# Altium schematic symbol library Sch_LPC.SchLib: 2 symbols
Pins are listed as number, name and electrical type; pins without a type are passive.

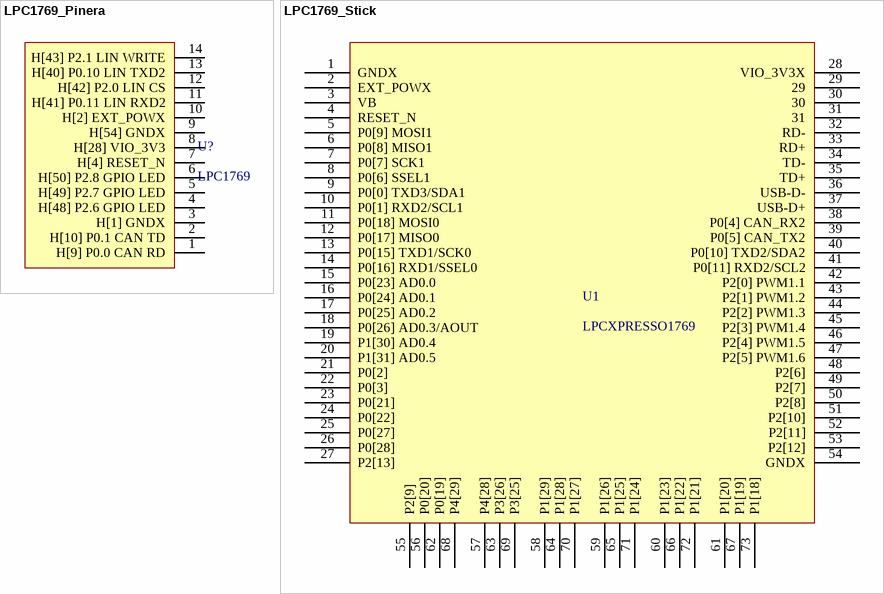
[diagram p0: symbols LPC1769_Pinera to LPC1769_Stick]

## LPC1769_Pinera
designator U?, comment LPC1769
LPC1769 Pinera 5mm
footprint Header_12 (Header 12 Pin)
pins: 1 H[9] P0.0 CAN RD, 2 H[10] P0.1 CAN TD, 3 H[1] GNDX, 4 H[48] P2.6 GPIO LED, 5 H[49] P2.7 GPIO LED, 6 H[50] P2.8 GPIO LED, 7 H[4] RESET_N, 8 H[28] VIO_3V3, 9 H[54] GNDX, 10 H[2] EXT_POWX, 11 H[41] P0.11 LIN RXD2, 12 H[42] P2.0 LIN CS, 13 H[40] P0.10 LIN TXD2, 14 H[43] P2.1 LIN WRITE

## LPC1769_Stick
designator U1, comment LPCXPRESSO1769
footprint Stick (Connector; Header Stick)
pins: 1 GNDX, 2 EXT_POWX, 3 VB, 4 RESET_N, 5 P0[9] MOSI1, 6 P0[8] MISO1, 7 P0[7] SCK1, 8 P0[6] SSEL1, 9 P0[0] TXD3/SDA1, 10 P0[1] RXD2/SCL1, 11 P0[18] MOSI0, 12 P0[17] MISO0, 13 P0[15] TXD1/SCK0, 14 P0[16] RXD1/SSEL0, 15 P0[23] AD0.0, 16 P0[24] AD0.1, 17 P0[25] AD0.2, 18 P0[26] AD0.3/AOUT, 19 P1[30] AD0.4, 20 P1[31] AD0.5, 21 P0[2], 22 P0[3], 23 P0[21], 24 P0[22], 25 P0[27], 26 P0[28], 27 P2[13], 28 VIO_3V3X, 29, 30, 31, 32 RD-, 33 RD+, 34 TD-, 35 TD+, 36 USB-D-, 37 USB-D+, 38 P0[4] CAN_RX2, 39 P0[5] CAN_TX2, 40 P0[10] TXD2/SDA2, 41 P0[11] RXD2/SCL2, 42 P2[0] PWM1.1, 43 P2[1] PWM1.2, 44 P2[2] PWM1.3, 45 P2[3] PWM1.4, 46 P2[4] PWM1.5, 47 P2[5] PWM1.6, 48 P2[6], 49 P2[7], 50 P2[8], 51 P2[10], 52 P2[11], 53 P2[12], 54 GNDX, 55 P2[9], 56 P0[20], 57 P4[28], 58 P1[29], 59 P1[26], 60 P1[23], 61 P1[20], 62 P0[19], 63 P3[26], 64 P1[28], 65 P1[25], 66 P1[22], 67 P1[19], 68 P4[29], 69 P3[25], 70 P1[27], 71 P1[24], 72 P1[21], 73 P1[18]